# Altium schematic symbol library pIRfusiX_sensorBoard.SCHLIB: 20 symbols
Pins are listed as number, name and electrical type; pins without a type are passive.

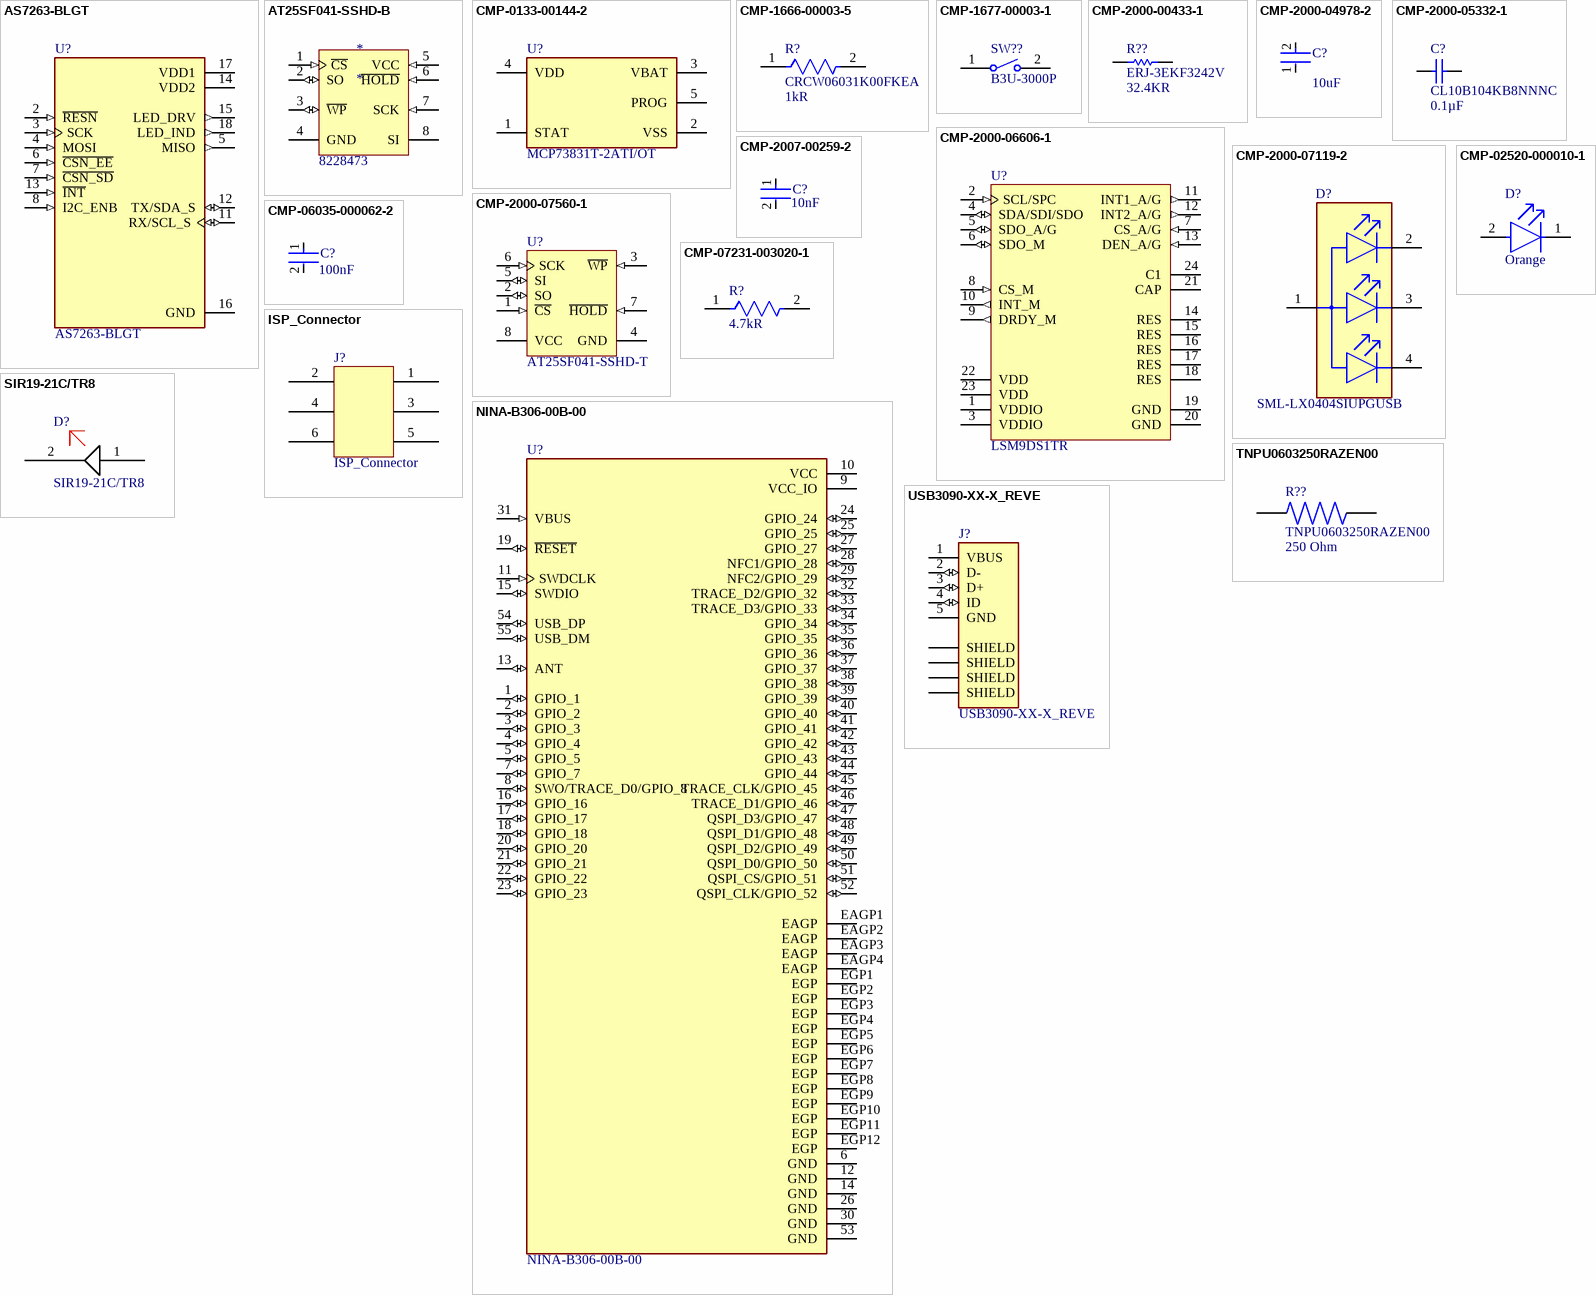
[diagram p0: symbols AS7263-BLGT to USB3090-XX-X_REVE]

## AS7263-BLGT
designator U?
Optical Sensor Ambient 610nm, 680nm, 730nm, 760nm, 810nm, 860nm IÂ²C, SPI 20-BFLGA; MF: ams; Package: LGA-20 ams; Availability: Unavailable; Value: *; MP: AS7263-BLGT; SnapEDA_Link: https://www.snapeda.com/parts/AS7263-BLGT/ams/view-part/1600359/?ref=snap; Price: None
footprint PQFN065P470X450X260-20N
pins: 2 ~{RESN} (in), 3 SCK (in), 4 MOSI (in), 5 MISO (out), 6 ~{CSN_EE} (in), 7 ~{CSN_SD} (in), 8 I2C_ENB (in), 11 RX/SCL_S (io), 12 TX/SDA_S (io), 13 ~{INT} (in), 14 VDD2 (power), 15 LED_DRV (out), 16 GND (power), 17 VDD1 (power), 18 LED_IND (out)

## AT25SF041-SSHD-B
designator *  Supplier Part Number 1: 8228473
NOR Flash Serial (SPI, Dual SPI, Quad SPI) 3.3V 4M-bit 512K x 8 8ns 8-Pin SOIC Tube; Manufacturer: Adesto Technologies; Manufacturer Part Number: AT25SF041-SSHD-B; Interface: SPI,Serial; Page Size: 256B; Density: 4Mb; Max Supply Voltage: 3.6V; Min Supply Voltage: 2.5V; Memory Type: FLASH,NOR; Frequency: 104MHz; Max Supply Current: 8mA; Data Bus Width: 8b; Supplier 1: RSComponents; RoHS: Yes; Category: Memory; Stock 1: 80; Pricing 1: 10=0.33100, 50=0.28000, 100=0.27100, 500=0.26500, 1000=0.25900, 10=0.23900, 50=0.20200, 100=0.19600, 500=0.19100, 1000=0.18700 (USD); Mount: Surface Mount; Case/Package: SOIC; Number of Pins: 8; Contact Plating: Gold; Weight: 0.019048oz; Min Operating Temperature: -40°C; Max Operating Temperature: 85°C; Packaging: Rail/Tube; Operating Supply Voltage: 3.3V; Memory Size: 4Mb; Access Time: 8ns; Max Frequency: 104MHz; Package Quantity: 98; Length: 5.05mm; Width: 3.99mm; Height: 1.5mm; RoHS Compliant: Yes; Lead Free: Lead Free; ComponentLink1URL: http://www.mouser.com/ds/2/590/DS-AT25SF041_044-534001.pdf?src-supplier=Mouser; ComponentLink1Description: http://www.mouser.com/ds/2/590/DS-AT25SF041_044-534001.pdf?src-supplier=Mouser; ComponentLink2URL: http://www.farnell.com/datasheets/2631250.pdf?src-supplier=Farnell; ComponentLink2Description: http://www.farnell.com/datasheets/2631250.pdf?src-supplier=Farnell; ComponentLink3URL: http://www.adestotech.com/sites/default/files/datasheets/DS-AT25SF041_044.pdf?src-supplier=Avnet; ComponentLink3Description: http://www.adestotech.com/sites/default/files/datasheets/DS-AT25SF041_044.pdf?src-supplier=Avnet; ComponentLink4URL: http://www.adestotech.com/wp-content/uploads/DS-AT25SF041_044.pdf?src-supplier=Digi-Key; ComponentLink4Description: http://www.adestotech.com/wp-content/uploads/DS-AT25SF041_044.pdf?src-supplier=Digi-Key; ComponentLink5URL: http://www.farnell.com/datasheets/2631250.pdf?src-supplier=Newark; ComponentLink5Description: http://www.farnell.com/datasheets/2631250.pdf?src-supplier=Newark; ComponentLink6URL: http://www.adestotech.com/sites/default/files/datasheets/DS-AT25SF041_044.pdf?src-supplier=Avnet+Asia; ComponentLink6Description: http://www.adestotech.com/sites/default/files/datasheets/DS-AT25SF041_044.pdf?src-supplier=Avnet+Asia
pins: 1 ~{CS} (in) "CHIP SELECT", 2 SO (io) "SERIAL OUTPUT (SERIAL OUTPUT/INPUT)", 3 ~{WP} (io) "WRITE PROTECT", 4 GND (power) "GROUND SUPPLY", 5 VCC (in) "DEVICE POWER SUPPLY", 6 ~{HOLD} (in) "used to temporarily pause serial communication without deselecting or resetting the device", 7 SCK (in) "SERIAL CLOCK", 8 SI (power) "SERIAL INPUT (SERIAL INPUT/OUTPUT)"

## CMP-0133-00144-2
designator U?, comment MCP73831T-2ATI/OT
IC CONTROLLR LI-ION 4.2V SOT23-5; Manufacturer: Microchip; Max Supply Voltage: 6V; Max Output Current: 500mA; Min Output Voltage: 4.168V; Max Output Voltage: 4.232V; Min Supply Voltage: 3.75V; Number of Cells: 1; Lead Free: Lead Free; Number of Pins: 5; Package Quantity: 3000; Min Operating Temperature: -40°C; Width: 1.8mm; Max Charge Current: 500mA; Output Current: 500mA; Packaging: Tape and Reel; Height: 1.3mm; Output Voltage: 4.2V; Max Operating Temperature: 85°C; Mount: Surface Mount; Case/Package: SOT-23; Length: 3.1mm; REACH SVHC: No SVHC; Manufacturer Part Number: MCP73831T-2ATI/OT
footprint FP-C04-091-OT-IPC_C
footprint FP-C04-091-OT-IPC_A
footprint FP-C04-091-OT-MFG
footprint FP-C04-091-OT-IPC_B
pins: 1 STAT, 2 VSS (power), 3 VBAT (power), 4 VDD (power), 5 PROG

## CMP-1666-00003-5
designator R?, comment CRCW06031K00FKEA  Resistance: 1kR
RES Thick Film, 1kΩ, 1%, 0.1W, 100ppm/°C, 0603; Manufacturer: Vishay Dale; Max Power Dissipation: 100mW; Voltage Rating: 75V; Max Operating Temperature: 155°C; Number of Pins: 2; Case Code (Imperial): 0603; Width: 0.033inch; Power Rating: 100mW; Number of Terminations: 2; Package Quantity: 10; Weight: 7.1E-05oz; Tolerance: 1%; Temperature Coefficient: 100ppm/°C; Military Standard: Not; Mount: Surface Mount; Voltage Rating (DC): 75V; Depth: 0.85mm; Composition: Thick Film; Radiation Hardening: No; Termination: SMD/SMT; Length: 1.55mm; Case Code (Metric): 1608; Contact Plating: Tin; Min Operating Temperature: -55°C; Packaging: Tape and Reel; Height: 0.45mm; Lead Free: Lead Free; Case/Package: 0603; Features: Automotive AEC-Q200; Manufacturer Part Number: CRCW06031K00FKEA
footprint FP-CRCW0603-e3-MFG
footprint FP-CRCW0603-e3-IPC_A
footprint FP-CRCW0603-e3-IPC_C
footprint FP-CRCW0603-e3-IPC_B
pins: 1, 2

## CMP-1677-00003-1
designator SW??, comment B3U-3000P
Ultra-Small Tactile Switch, 1 to 50 mA, 3 to 12 V, -25 to 70 degC, 2-Pin SMD, RoHS, Tape and Reel; Manufacturer: Omron; Tolerance: 20%; Voltage Rating (DC): 50 V; Capacitance: 470 uF; Case\Package: Radial; PackageReference: B3U-3000P; Min Operating Temperature: -40 degC; Length: 20 mm; Mount: Through Hole; ComponentLink2Description: Datasheet; RoHSCompliant: true; ComponentLink1URL: http://www.omron.com/; Package Quantity: 200; Radiation Hardening: No; Height: 20 mm; ComponentLink2URL: https://www.omron.com/ecb/products/pdf/en-b3u.pdf; Diameter: 10 mm; Max Operating Temperature: 85 degC; Lead Pitch: 5 mm; DatasheetVersion: Jan-15; Packaging: Bulk; PackageDescription: 2-Pin Surface Mount Device, Body 4 x 3.2 mm; Voltage Rating: 50 V; Pins: 2; ComponentLink1Description: Manufacturer URL; REACH SVHC: No SVHC; Manufacturer Part Number: B3U-3000P
footprint OMRON-B3U-3000P_V (SMD, 2-Leads, Body 4x3.2mm)
pins: 1, 2

## CMP-2000-00433-1
designator R??, comment ERJ-3EKF3242V  Resistance: 32.4KR
Manufacturer: Panasonic; Part Number: ERJ-3EKF3242V; Manufacturer Part Number: ERJ-3EKF3242V
footprint RESC1608X55X30ML15T15 (Chip Resistor, 2-Leads, Body 1.60x0.80mm, IPC Low Density)
footprint RESC1608X55X30NL15T15 (Chip Resistor, 2-Leads, Body 1.60x0.80mm, IPC Medium Density)
footprint RESC1608X55X30LL15T15 (Chip Resistor, 2-Leads, Body 1.60x0.80mm, IPC High Density)
pins: 1, 2
1 alternate drawing of the same symbol

## CMP-2000-04978-2
designator C?, comment Capacitance: 10uF  (hidden comment: C1608X5R0J106M080AB)
Multilayer Ceramic Capacitors 10μF ±20% 6.3V X5R SMD 0603; Manufacturer: TDK; Min Operating Temperature: -55°C; Construction: Flat; Width: 0.031inch; Weight: 7.1E-05oz; Voltage Rating: 6.3V; Length: 1.6mm; Voltage: 6.3V; Resistor Type: Ceramic; Mount: Surface Mount; RoHS Compliant: Yes; Packaging: Tape and Reel; Voltage Rating (DC): 6.3V; Case Code (Metric): 1608; Radiation Hardening: No; Dielectric Material: Ceramic; Lead Free: Lead Free; Case Code (Imperial): 0603; Dielectric: X5R; Termination: SMD/SMT; Depth: 0.8mm; Series: C; REACH SVHC: No SVHC; Package Quantity: 1; Thickness: 0.035inch; Height: 0.8mm; Max Operating Temperature: 85°C; Case/Package: 0603; Tolerance: 20%; Manufacturer Part Number: C1608X5R0J106M080AB
footprint FP-C1608-080-0_1-MFG
footprint FP-C1608-080-0_1-IPC_A
footprint FP-C1608-080-0_1-IPC_B
footprint FP-C1608-080-0_1-IPC_C
pins: 1, 2

## CMP-2000-05332-1
designator C?, comment CL10B104KB8NNNC  Capacitance: 0.1µF
Multi-layer Ceramic Capacitor, -55 to 125 degC, 2-Pin SMD (0603), RoHS, Tape and Reel; Manufacturer: Samsung Electro-Mechanics; Manufacturer: Samsung; Rated Voltage: 50V; Dielectric: X7R; Tolerance (%): ±10%; Case Size/Dimension: 0603; Datasheet URL: https://datasheet.ciiva.com/29198/456651-da-01-en-vs-kondensator-0605-29198839.pdf; Manufacturer URL: http://www.samsungsem.com/global/index.jsp; Datasheet Version: Nov-10; Manufacturer Part Number: CL10B104KB8NNNC
footprint SAMS-C0603-2_M (Chip Capacitor, 2-Leads, Body 1.70x0.90mm, IPC Low Density)
footprint SAMS-C0603-2_N (Chip Capacitor, 2-Leads, Body 1.70x0.90mm, IPC Medium Density)
footprint SAMS-C0603-2_L (Chip Capacitor, 2-Leads, Body 1.70x0.90mm, IPC High Density)
pins: 1, 2

## CMP-2000-06606-1
designator U?, comment LSM9DS1TR
iNEMO Inertial Module: 3D Accelerometer, 3D Gyroscope, 3D Magnetometer, 1.9 to 3.6 V, -40 to 85 degC, 24-Pin LGA, RoHS, Tape and Reel; Manufacturer: STMicroelectronics; SVHC: NoSVHC(17-Dec-2015); MEMS Module Function: Tri-AxisGyroscope,Tri-AxisAccelerometer,Tri-AxisMagnetometer; Supply Voltage Max: 3.6V; No. of Pins: 24Pins; Gyroscope Range: ±245°/s,±500°/s,±2000°/s; Acceleration Range: ±2g,±4g,±8g,±16g; Supply Voltage Min: 1.9V; Package Description: 24-Pin Plastic Land Grid Array Package, Body 3.65 x 3.15 mm, Pitch 0.43 mm; Manufacturer URL: http://www.st.com/; PartNumber: LSM9DS1; Product Range: -; Packaging: CutTape; Sensor Case Style: LGA; Datasheet URL: http://www2.st.com/content/ccc/resource/technical/document/datasheet/1e/3f/2a/d6/25/eb/48/46/DM00103319.pdf/files/DM00103319.pdf/jcr:content/translations/en.DM00103319.pdf; Package Reference: LGA-24_3500X3000X1000; Mounting Technology: SurfaceMount; Datasheet Version: Rev. 3, 03/2015; MSL: MSL3-168hours; Manufacturer Part Number: LSM9DS1TR
footprint STM-LGA-24_3500X3000X1000 (LGA, 24-Leads, Body 3.65x3.15mm, Pitch 0.43mm)
pins: 1 VDDIO (power) "Power supply for I/O pins", 2 SCL/SPC (in), 3 VDDIO (power) "Power supply for I/O pins", 4 SDA/SDI/SDO (io), 5 SDO_A/G (io), 6 SDO_M (io) "SPI serial data output (SDO) for the magnetometer. I2C least significant bit of the device address (SA0) for the magnetometer", 7 CS_A/G (in), 8 CS_M (in) "SPI enable. I2C/SPI mode selection for the magnetometer (1: SPI idle mode / I2C communication enabled; 0: SPI communication mode / I2C disabled)", 9 DRDY_M (out) "Magnetic sensor data ready", 10 INT_M (out) "Magnetic sensor interrupt", 11 INT1_A/G (out), 12 INT2_A/G (out), 13 DEN_A/G (in), 14 RES "Reserved. Connected to GND.", 15 RES "Reserved. Connected to GND.", 16 RES "Reserved. Connected to GND.", 17 RES "Reserved. Connected to GND.", 18 RES "Reserved. Connected to GND.", 19 GND (power) "0 V supply", 20 GND (power) "0 V supply", 21 CAP "Connected to GND with ceramic capacitor", 22 VDD (power) "Power supply", 23 VDD (power) "Power supply", 24 C1 "Capacitor connection (C1 = 100 nF)"

## CMP-2000-07119-2
designator D?, comment SML-LX0404SIUPGUSB
LED RGB CLEAR SMD; Manufacturer: Lumex; Test Current: 2mA; Wavelength: 465nm; Color: Blue; Lens Style: Square; Power Rating: 30mW; Lens Color: Colorless; Number of LEDs: 3; Viewing Angle: 120°; Luminous Intensity: 20mcd; Forward Voltage: 2.73V; Height: 0.3mm; Lead Free: Lead Free; Max Operating Temperature: 85°C; Mount: Surface Mount; REACH SVHC: No SVHC; Case Code (Imperial): 0404; Forward Current: 2mA; Case Code (Metric): 1010; Lens Transparency: Clear; Length: 1mm; Packaging: Tape and Reel; Min Operating Temperature: -40°C; Package Quantity: 2000; Case/Package: 0404; Width: 1mm; Manufacturer Part Number: SML-LX0404SIUPGUSB
footprint FP-SML-LX0404SIUPGUSB-MFG
pins: 1 Common Anode, 2 Red C, 3 Blue C, 4 Green C

## CMP-2000-07560-1
designator U?, comment AT25SF041-SSHD-T
SPI Serial Flash Memory with Dual-I/O and Quad-I/O Support, 4 Mbits, 2.5 to 3.6 V, -40 to 85 degC, 8-Pin SOIC, RoHS, Tape and Reel; Manufacturer: Adesto; Manufacturer Part Number: AT25SF041-SSHD-B; Manufacturer: Adesto Technologies; Frequency: 104MHz; Access Time: 8ns; Data Bus Width: 8b; Min Supply Voltage: 2.5V; Operating Supply Voltage: 3.3V; Package Version: Rev. G, 08/2014; Density: 4Mb; Page Size: 256B; Max Supply Voltage: 3.6V; Max Supply Current: 8mA; Description: NOR Flash Serial (SPI, Dual SPI, Quad SPI) 3.3V 4M-bit 512K x 8 8ns 8-Pin SOIC Tube; Number of Pins: 8; Memory Type: FLASH; Manufacturer URL: http://www.adestotech.com/; Max Frequency: 104MHz; Interface: Serial; Package Quantity: 4000; Weight: 0.019048oz; Mounting Technology: SurfaceMount; Min Operating Temperature: -40degC; Package Reference: SOIC-8; Max Operating Temperature: 85degC; Lead Free: LeadFree; Mount: SurfaceMount; Contact Plating: Gold; RoHSCompliant: True; Package Description: 8-Pin Small Outline Integrated Circuit, Body 4.925 x 3.9 mm, Pitch 1.27 mm; Case\/Package: SOIC; Datasheet URL: http://www.adestotech.com/wp-content/uploads/DS-AT25SF041_044.pdf; Datasheet Version: Rev. G, 08/2017; Memory Size: 4Mb; Packaging: TapeandReel; Supplier 1: RSComponents; RoHS: Yes; Category: Memory; Stock 1: 80; Pricing 1: 10=0.33100, 50=0.28000, 100=0.27100, 500=0.26500, 1000=0.25900, 10=0.23900, 50=0.20200, 100=0.19600, 500=0.19100, 1000=0.18700 (USD); Case/Package: SOIC; Length: 5.05mm; Width: 3.99mm; Height: 1.5mm; RoHS Compliant: Yes; ComponentLink1URL: http://www.mouser.com/ds/2/590/DS-AT25SF041_044-534001.pdf?src-supplier=Mouser; ComponentLink1Description: http://www.mouser.com/ds/2/590/DS-AT25SF041_044-534001.pdf?src-supplier=Mouser; ComponentLink2URL: http://www.farnell.com/datasheets/2631250.pdf?src-supplier=Farnell; ComponentLink2Description: http://www.farnell.com/datasheets/2631250.pdf?src-supplier=Farnell; ComponentLink3URL: http://www.adestotech.com/sites/default/files/datasheets/DS-AT25SF041_044.pdf?src-supplier=Avnet; ComponentLink3Description: http://www.adestotech.com/sites/default/files/datasheets/DS-AT25SF041_044.pdf?src-supplier=Avnet; ComponentLink4URL: http://www.adestotech.com/wp-content/uploads/DS-AT25SF041_044.pdf?src-supplier=Digi-Key; ComponentLink4Description: http://www.adestotech.com/wp-content/uploads/DS-AT25SF041_044.pdf?src-supplier=Digi-Key; ComponentLink5URL: http://www.farnell.com/datasheets/2631250.pdf?src-supplier=Newark; ComponentLink5Description: http://www.farnell.com/datasheets/2631250.pdf?src-supplier=Newark; ComponentLink6URL: http://www.adestotech.com/sites/default/files/datasheets/DS-AT25SF041_044.pdf?src-supplier=Avnet+Asia; ComponentLink6Description: http://www.adestotech.com/sites/default/files/datasheets/DS-AT25SF041_044.pdf?src-supplier=Avnet+Asia; Manufacturer Part Number: AT25SF041-SSHD-T; Supplier Part Number 1: 8228473
footprint ADST-SOIC-8_L (SOIC, 8-Leads, Body 5.1x4mm, Pitch 1.27mm, IPC High Density)
footprint ADST-SOIC-8_M (SOIC, 8-Leads, Body 5.1x4mm, Pitch 1.27mm, IPC Low Density)
footprint ADST-SOIC-8_N (SOIC, 8-Leads, Body 5.1x4mm, Pitch 1.27mm, IPC Medium Density)
pins: 1 ~{CS} (in) "CHIP SELECT", 2 SO (io) "SERIAL OUTPUT (SERIAL OUTPUT/INPUT)", 3 ~{WP} (in) "WRITE PROTECT", 4 GND (power) "GROUND", 5 SI (io) "SERIAL INPUT (SERIAL INPUT/OUTPUT)", 6 SCK (in) "SERIAL CLOCK", 7 ~{HOLD} (in) "used to temporarily pause serial communication without deselecting or resetting the device", 8 VCC (power) "DEVICE POWER SUPPLY"

## CMP-2007-00259-2
designator C?, comment value 10nF  (hidden comment: C0805C103K2RACTU)
CAP CER 10000PF 200V X7R 0805; Manufacturer: KEMET; Material: Ceramic; Temperature Coefficient: 30ppm/°C; Capacitance: 10,000 pF; Tolerance: 0.1; Device Class L2: Capacitors; Voltage Rating: 200 V; Temperature Range High: +125°C; ComponentLink2Description: Datasheet; Height: 0.88mm; Octopart: https://octopart.com/c0805c103k2ractu-kemet-9138347; ComponentLink2URL: https://content.kemet.com/datasheets/KEM_C1003_C0G_SMD.pdf; Category: Cap; Temperature: -55°C to +125°C; Temperature Range Low: -55°C; Digikey Description: CAP CER 10000PF 200V X7R 0805; Manufacturer Part Number: C0805C103K2RACTU; Temperature Characteristic: X7R; Automotive: No; Device Class L3: Ceramic Capacitors; Mouser Description: KEMET - C0805C103K2RACTU - CAP, MLCC, X7R, 10NF, 200V, 0805; RoHS: TRUE; Device Class L1: Passive Components; Lead Free: Yes; Package: C0805C-DN; Ipc Land Pattern Name: CAPC200125X78
footprint FP-C0805C-DN-MFG
footprint FP-C0805C-DN-IPC_C
footprint FP-C0805C-DN-IPC_B
footprint FP-C0805C-DN-IPC_A
pins: 1, 2

## CMP-02520-000010-1
designator D?, comment Colour: Orange  (hidden comment: TLMO1000-GS08)
LED ORANGE 0603 SMD; Manufacturer: Vishay; Automotive Grade: Grade 2; Luminous Intensity: 7.5mcd; Forward Current: 2mA; Forward Voltage: 1.8V; Led Orientation: Top View; Power Dissipation: 40mW; Max Junction Temp: +120°C; Wavelength: 605nm; Viewing Angle: 160°; Peak Emmision Wavelength: 610nm; Reverse Voltage: 6V; Digikey Description: LED ORANGE 0603 SMD; Lead Free: Yes; RoHS: TRUE; Device Class L1: Optoelectronics; Automotive: Yes; Manufacturer Part Number: TLMO1000-GS08; Category: Diode; Device Class L3: unset; Temperature Range Low: -40°C; Temperature Range High: +100°C; Ambient Temperature Range High: +100°C; ComponentLink2URL: http://www.vishay.com/docs/83172/tlmo1000.pdf; Height: 0.65mm; Ambient Temperature Range Low: -40°C; Device Class L2: LEDs; Octopart: https://octopart.com/tlmo1000-gs08-vishay-41955669; Temperature: -40°C to +100°C; ComponentLink2Description: Datasheet; Package: 6.541-5056.01-4
footprint FP-6_541-5056_01-4-MFG
pins: 1 C, 2 A

## CMP-06035-000062-2
designator C?, comment Capacitance: 100nF  (hidden comment: GRM033R60J104KE19D)
Chip Multilayer Ceramic Capacitors for General Purpose, 0201, 0.10uF, X5R, 15%, 10%, 6.3V; Manufacturer: Murata; Min Operating Temperature: -55°C; Lead Free: Lead Free; Radiation Hardening: No; Dielectric: X5R; Voltage Rating (DC): 6.3V; REACH SVHC: No SVHC; Case/Package: 0201; Voltage Rating: 6.3V; Length: 0.6mm; Max Operating Temperature: 85°C; Width: 0.012inch; Depth: 0.3mm; Material: Ceramic; Case Code (Metric): 0603; Thickness: 0.013inch; Packaging: Tape and Reel; Height: 0.3mm; Weight: 6E-06oz; Package Quantity: 1; Mount: Surface Mount; Voltage: 6.3V; Case Code (Imperial): 0201; Tolerance: 10%; Termination: SMD/SMT; Manufacturer Part Number: GRM033R60J104KE19D
footprint FP-GRM033-0_03-MFG
footprint FP-GRM033-0_03-IPC_B
footprint FP-GRM033-0_03-IPC_A
footprint FP-GRM033-0_03-IPC_C
pins: 1, 2

## CMP-07231-003020-1
designator R?, comment Resistance: 4.7kR  (hidden comment: CR0603-FX-4701ELF)
Thick Film Chip Resistors 0603 4.7kΩ 0.1W 1% 100ppm/°C; Manufacturer: Bourns; Voltage Rating (DC): 50V; Power Rating: 100mW; Case Code (Imperial): 0603; Thickness: 457um; Length: 1.6mm; Number of Pins: 2; Max Operating Temperature: 155°C; Termination: SMD/SMT; Min Operating Temperature: -55°C; Packaging: Tape and Reel; Composition: Thick Film; Radiation Hardening: No; Case/Package: 0603; Case Code (Metric): 1608; Height: 0.45mm; Voltage Rating: 50V; Mount: Surface Mount; Max Power Dissipation: 100mW; Contact Plating: Tin; REACH SVHC: No SVHC; Depth: 0.8mm; Package Quantity: 1; Tolerance: 1%; Temperature Coefficient: 100ppm/°C; Width: 0.8mm; Features: Moisture Resistant; Number of Terminations: 2; Manufacturer Part Number: CR0603-FX-4701ELF
footprint FP-CR0603-IPC_B
footprint FP-CR0603-IPC_A
footprint FP-CR0603-MFG
footprint FP-CR0603-IPC_C
pins: 1, 2

## ISP_Connector
designator J?
pins: 1 VDD, 2 SWDIO, 3 SWCLK, 4 DNP, 5 GND, 6 RESETN

## NINA-B306-00B-00
designator U?
With internal PCB antenna, 10.0 x 15.0 x 2.2 mm, use with open CPU; MF: u-blox; Value: *; Package: SMD-55 u-blox; Price: None; MP: NINA-B306-00B-00; Availability: Unavailable; SnapEDA_Link: https://www.snapeda.com/parts/NINA-B306-00B-00/u-blox/view-part/4176731/?ref=snap
footprint XCVR_NINA-B306-00B-00
pins: 1 GPIO_1 (io), 2 GPIO_2 (io), 3 GPIO_3 (io), 4 GPIO_4 (io), 5 GPIO_5 (io), 6 GND (power), 7 GPIO_7 (io), 8 SWO/TRACE_D0/GPIO_8 (io), 9 VCC_IO (power), 10 VCC (power), 11 SWDCLK (in), 12 GND (power), 13 ANT (io), 14 GND (power), 15 SWDIO (io), 16 GPIO_16 (io), 17 GPIO_17 (io), 18 GPIO_18 (io), 19 ~{RESET} (io), 20 GPIO_20 (io), 21 GPIO_21 (io), 22 GPIO_22 (io), 23 GPIO_23 (io), 24 GPIO_24 (io), 25 GPIO_25 (io), 26 GND (power), 27 GPIO_27 (io), 28 NFC1/GPIO_28 (io), 29 NFC2/GPIO_29 (io), 30 GND (power), 31 VBUS (in), 32 TRACE_D2/GPIO_32 (io), 33 TRACE_D3/GPIO_33 (io), 34 GPIO_34 (io), 35 GPIO_35 (io), 36 GPIO_36 (io), 37 GPIO_37 (io), 38 GPIO_38 (io), 39 GPIO_39 (io), 40 GPIO_40 (io), 41 GPIO_41 (io), 42 GPIO_42 (io), 43 GPIO_43 (io), 44 GPIO_44 (io), 45 TRACE_CLK/GPIO_45 (io), 46 TRACE_D1/GPIO_46 (io), 47 QSPI_D3/GPIO_47 (io), 48 QSPI_D1/GPIO_48 (io), 49 QSPI_D2/GPIO_49 (io), 50 QSPI_D0/GPIO_50 (io), 51 QSPI_CS/GPIO_51 (io), 52 QSPI_CLK/GPIO_52 (io), 53 GND (power), 54 USB_DP (io), 55 USB_DM (io), EAGP1 EAGP (power), EAGP2 EAGP (power), EAGP3 EAGP (power), EAGP4 EAGP (power), EGP1 EGP (power), EGP2 EGP (power), EGP3 EGP (power), EGP4 EGP (power), EGP5 EGP (power), EGP6 EGP (power), EGP7 EGP (power), EGP8 EGP (power), EGP9 EGP (power), EGP10 EGP (power), EGP11 EGP (power), EGP12 EGP (power)

## SIR19-21C/TR8
designator D?
footprint SIR19-21C/TR8
pins: 1, 2

## TNPU0603250RAZEN00
designator R??  Resistance: 250 Ohm
Package: None; Price: None; Value: *; MP: TNPU0603250RAZEN00; Availability: Unavailable; Supplier 1: Mouser; Supplier Part Number 1: 71-TNPU0603250RAZEN0
footprint TNPW0603250RBEEN
pins: 1, 2

## USB3090-XX-X_REVE
designator J?
USB - micro AB USB 2.0 Receptacle Connector 5 Position Surface Mount, Right Angle; Through Hole; MP: USB3090-30-A; MF: Global Connector Technology; SnapEDA_Link: https://www.snapeda.com/parts/USB3090-30-A/Global%20Connector%20Technology/view-part/281875/?ref=snap; Price: None; Availability: Unavailable; Value: *; Package: None
footprint GCT_USB3090-XX-X_REVE
pins: 1 VBUS (power), 2 D- (io), 3 D+ (io), 4 ID (io), 5 GND (power), 6 SHIELD (power), 7 SHIELD (power), 8 SHIELD (power), 9 SHIELD (power)